# EAGLE library part USB2UART (library Library)
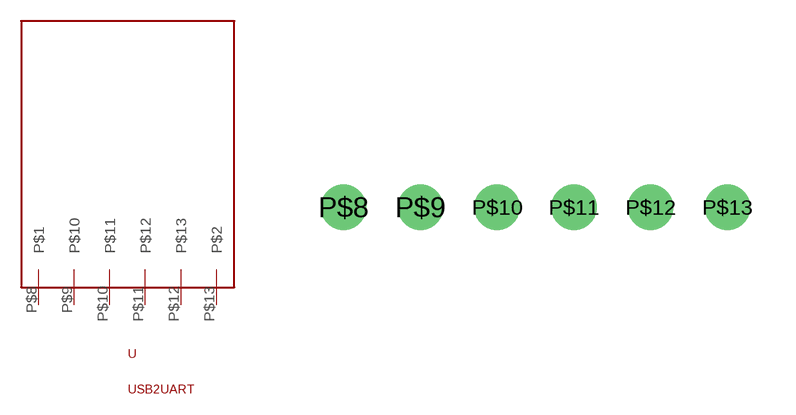
[diagram p14: symbol with the pads of USB2UART; footprint USB2UART]

Designator prefix -

## USB2UART  [USB2UART]
P$8  P$1
P$9  P$10
P$10  P$11
P$11  P$12
P$12  P$13
P$13  P$2

## Footprint USB2UART (pad centres in mm)
drill 1: P$8 -6.35,-8.89; P$9 -3.81,-8.89; P$10 -1.27,-8.89; P$11 1.27,-8.89; P$12 3.81,-8.89; P$13 6.35,-8.89